# EAGLE library part LAB-ADSM300F (library LAB304)
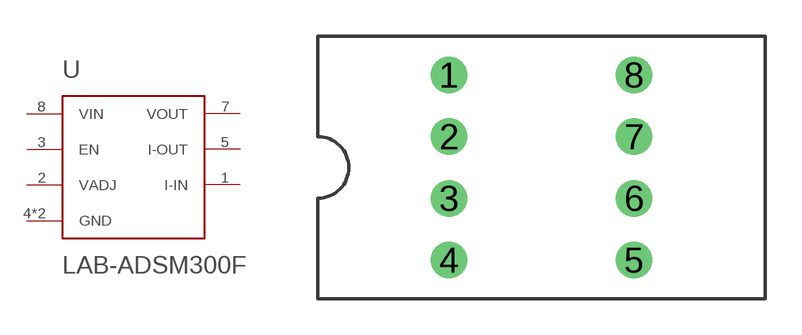
[diagram p0: symbol with the pads of LAB-ASDM300F; footprint LAB-ASDM300F]

Designator prefix -

## LAB-ADSM300F  [LAB-ASDM300F]
1  I-IN  out
2  VADJ  in
3  EN  in
4  GND  pwr
5  I-OUT  out
6  GND  pwr
7  VOUT  out
8  VIN  pwr

## Footprint LAB-ASDM300F (pad centres in mm)
Dual In Line package type P
drill 1: 1 5.397,9.207; 2 5.397,6.668; 3 5.397,4.128; 4 5.397,1.587; 5 13.018,1.587; 6 13.018,4.128; 7 13.018,6.668; 8 13.018,9.207